# EAGLE library part MAINSWITCH (library Solar array design )
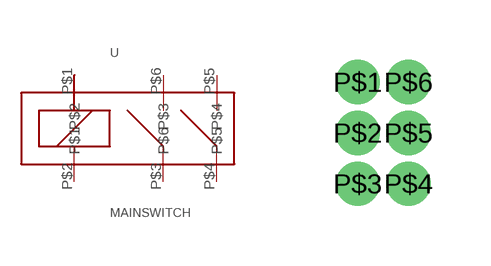
[diagram p0: symbol with the pads of MAINSWITCH; footprint MAINSWITCH]

Designator prefix -

## MAINSWITCH  [MAINSWITCH]
P$1  P$1
P$2  P$2
P$3  P$3
P$4  P$4
P$5  P$5
P$6  P$6

## Footprint MAINSWITCH (pad centres in mm)
drill 0.6: P$1 -13.97,7.62; P$2 -13.97,6.35; P$3 -13.97,5.08; P$4 -12.7,5.08; P$5 -12.7,6.35; P$6 -12.7,7.62